# Altium footprint library Switches.PcbLib: 2 footprints
Each footprint in its own frame and in the unit in brackets; x right, y up, seen from the top. Pads: shape width x height; smd on the part's side, far side on the other; paste and mask are expansions set on the pad; w line width, h text height; cw(c..) or ccw(c..) is an arc to the next point about the centre after c.
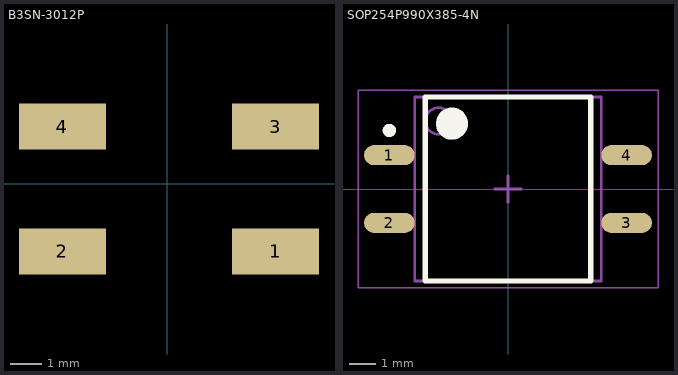
[diagram p0: the footprints below, top view; thin cyan lines are the x and y axes]

## B3SN-3012P [mm]
pads (4):
  rect 2.75x1.45 smd: 1(3.426,-2.135) 2(-3.324,-2.135) 3(3.426,1.815) 4(-3.324,1.815)
3D body "b3sn-3012.stp": height 3.1, standoff 0, extent -3.25,-3.683 3.25,3.317
3D body "b3sn-3012.stp": height 3.1, standoff 0, extent -3.524,-3.385 3.476,3.115

## SOP254P990X385-4N [mm] "SOP, 4-Leads, Body 6.55x6.70mm, Pitch 2.54mm, IPC Medium Density"
height 3.85
pads (4):
  oval 1.9x0.75 smd: 1(-4.45,1.27) 2(-4.45,-1.27) 3(4.45,-1.27) 4(4.45,1.27)
Top Overlay:
  circle w0.25: c-4.45,2.195 r0.125
  circle w0.6: c-2.1,2.45 r0.3
  lines w0.2: -3.1,-3.45 -3.1,3.45 3.1,3.45 3.1,-3.45 -3.1,-3.45
Mechanical 13:
  circle w0.1: c-2.6,2.55 r0.5
  lines w0.1: -3.5,-3.45 -3.5,3.45 3.5,3.45 3.5,-3.45 -3.5,-3.45
Mechanical 15:
  lines w0.05: -5.625,-3.7 -5.625,3.7 5.625,3.7 5.625,-3.7 -5.625,-3.7
  lines w0.1: -0.5,0 0.5,0 ; 0,-0.5 0,0.5
3D body: height 3.85, standoff 0.15, extent -3.5,-3.45 3.5,3.45